# Altium schematic symbol library Diodo SMD 0201.SchLib: 1 symbol
Pins are listed as number, name and electrical type; pins without a type are passive.

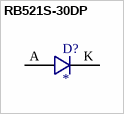
[diagram p0: symbol RB521S-30DP]

## RB521S-30DP
designator D?
DIODE SCHOTTKY 30V 100MA 0201; Manufacturer: Micro Commercial Co; Manufacturer Part Number: RB521S-30DP-TP; Detailed Description: Diode Schottky 30V 100mA Surface Mount 0201; Digi-Key Part Number: RB521S-30DP-TPMSTR-ND; ComponentLink1Description: Datasheet; ComponentLink1URL: https://www.mccsemi.com/pdf/Products/RB521S-30DP(0201).pdf
footprint DIOC0603X03N (Chip Diode, 2-Leads, Body 0,60x0,30mm, IPC Medium Density)
pins: A, K